# Altium integrated library Diode - TVS.IntLib: 371 symbols (part 2 of 6)
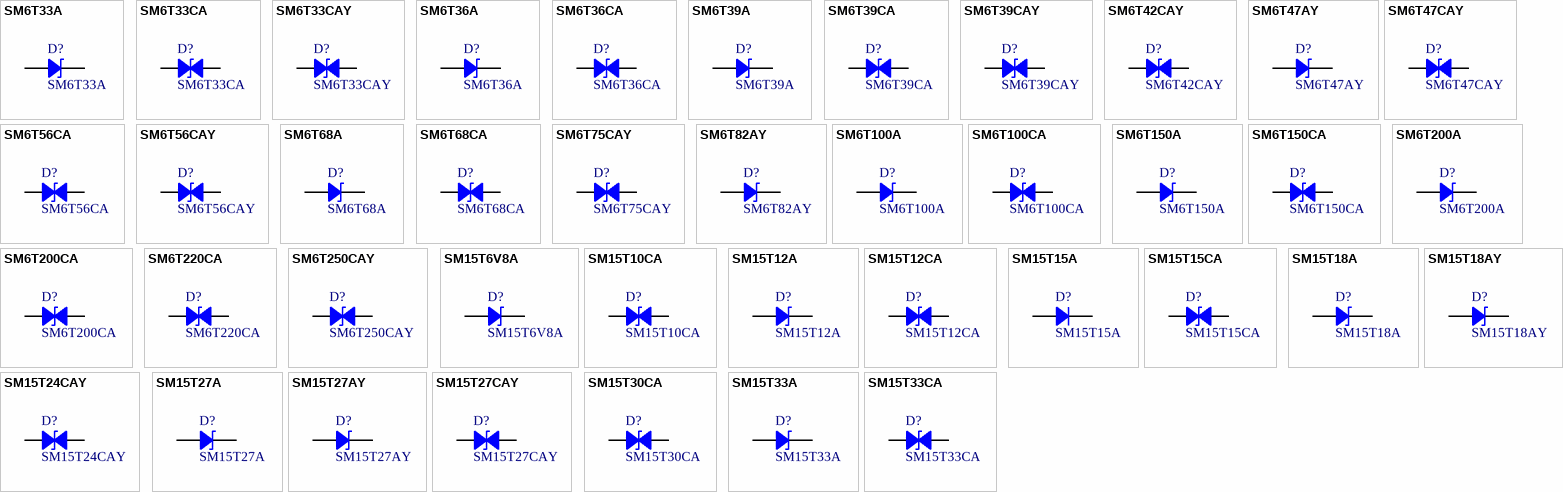
[diagram p10: symbols SM6T33A to SM15T33CA]

## SM6T200CA
designator D?
TVS DIODE 171VWM 353VC SMB; Manufacturer: STMicroelectronics; Type: Zener; Bidirectional Channels: 1; Power - Peak Pulse: 600W; Current - Peak Pulse: 11.3A (8/20us); Voltage (Clamping): 353V; Voltage (Breakdown): 190V; Voltage (Reverse Standoff): 171V; Part Number: SM6T200CA; PartId: 14693; Supplier 1: Digi-Key; Supplier Part Number 1: 497-7882-2-ND; ComponentLink1Description: Datasheet; ComponentLink1URL: http://www.st.com/web/en/resource/technical/document/datasheet/CD00000725.pdf; ComponentLink2Description: Digi-Key Listing; ComponentLink2URL: https://www.digikey.com/product-detail/en/stmicroelectronics/SM6T200CA/497-7882-2-ND/1039079; Operating Temperature: -55C ~ 150C (TJ); Price: 0.1435; Device Package: DO-214AA, SMB
footprint ST DO214AA SMB
pins: 1, 2

## SM6T220CA
designator D?
TVS DIODE 188VWM 388VC SMB; Manufacturer: STMicroelectronics; Type: Zener; Bidirectional Channels: 1; Power - Peak Pulse: 600W; Current - Peak Pulse: 10.3A (8/20us); Voltage (Clamping): 388V; Voltage (Breakdown): 209V; Voltage (Reverse Standoff): 188V; Part Number: SM6T220CA; PartId: 14686; Supplier 1: Digi-Key; Supplier Part Number 1: 497-12520-2-ND; ComponentLink1Description: Datasheet; ComponentLink1URL: http://www.st.com/web/en/resource/technical/document/datasheet/CD00000725.pdf; ComponentLink2Description: Digi-Key Listing; ComponentLink2URL: https://www.digikey.com/product-detail/en/stmicroelectronics/SM6T220CA/497-12520-2-ND/1039081; Operating Temperature: -55C ~ 150C (TJ); Price: 0.1435; Device Package: DO-214AA, SMB
footprint ST DO214AA SMB
pins: 1, 2

## SM6T250CAY
designator D?
TVS DIODE 213VWM 344VC SMB; Manufacturer: STMicroelectronics; Type: Zener; Bidirectional Channels: 1; Power - Peak Pulse: 600W; Current - Peak Pulse: 1.75A; Voltage (Clamping): 344V; Voltage (Breakdown): 237V; Voltage (Reverse Standoff): 213V; Part Number: SM6T250CAY; PartId: 14698; Supplier 1: Digi-Key; Supplier Part Number 1: 497-16031-2-ND; ComponentLink1Description: Datasheet; ComponentLink1URL: http://www.st.com/web/en/resource/technical/document/datasheet/DM00166232.pdf; ComponentLink2Description: Digi-Key Listing; ComponentLink2URL: https://www.digikey.com/product-detail/en/stmicroelectronics/SM6T250CAY/497-16031-2-ND/5455744; Operating Temperature: -55C ~ 175C (TJ); Price: 0.2015; Device Package: DO-214AA, SMB
footprint ST DO214AA SMB
pins: 1, 2

## SM15T6V8A
designator D?
TVS DIODE 5.8VWM 13.4VC SMC; Manufacturer: STMicroelectronics; Type: Zener; Unidirectional Channels: 1; Power - Peak Pulse: 1500W (1.5kW); Current - Peak Pulse: 746A (8/20us); Voltage (Clamping): 13.4V; Voltage (Breakdown): 6.45V; Voltage (Reverse Standoff): 5.8V; Part Number: SM15T6V8A; PartId: 14799; Supplier 1: Digi-Key; Supplier Part Number 1: 497-6487-2-ND; ComponentLink1Description: Datasheet; ComponentLink1URL: http://www.st.com/web/en/resource/technical/document/datasheet/CD00000724.pdf; ComponentLink2Description: Digi-Key Listing; ComponentLink2URL: https://www.digikey.com/product-detail/en/stmicroelectronics/SM15T6V8A/497-6487-2-ND/1039053; Operating Temperature: -55C ~ 150C (TJ); Price: 0.2682; Device Package: DO-214AB, SMC
footprint ST DO214AB SMC
pins: 1, 2

## SM15T10CA
designator D?
TVS DIODE 8.55VWM 18.6VC SMC; Manufacturer: STMicroelectronics; Type: Zener; Bidirectional Channels: 1; Power - Peak Pulse: 1500W (1.5kW); Current - Peak Pulse: 538A (8/20us); Voltage (Clamping): 18.6V; Voltage (Breakdown): 9.5V; Voltage (Reverse Standoff): 8.55V; Part Number: SM15T10CA; PartId: 14820; Supplier 1: Digi-Key; Supplier Part Number 1: 497-6482-2-ND; ComponentLink1Description: Datasheet; ComponentLink1URL: http://www.st.com/web/en/resource/technical/document/datasheet/CD00000724.pdf; ComponentLink2Description: Digi-Key Listing; ComponentLink2URL: https://www.digikey.com/product-detail/en/stmicroelectronics/SM15T10CA/497-6482-2-ND/1039029; Operating Temperature: -55C ~ 150C (TJ); Price: 0.2798; Device Package: DO-214AB, SMC
footprint ST DO214AB SMC
pins: 1, 2

## SM15T12A
designator D?
TVS DIODE 10.2VWM 21.7VC SMC; Manufacturer: STMicroelectronics; Type: Zener; Unidirectional Channels: 1; Power - Peak Pulse: 1500W (1.5kW); Current - Peak Pulse: 461A (8/20us); Voltage (Clamping): 21.7V; Voltage (Breakdown): 11.4V; Voltage (Reverse Standoff): 10.2V; Part Number: SM15T12A; PartId: 14793; Supplier 1: Digi-Key; Supplier Part Number 1: 497-3715-2-ND; ComponentLink1Description: Datasheet; ComponentLink1URL: http://www.st.com/web/en/resource/technical/document/datasheet/CD00000724.pdf; ComponentLink2Description: Digi-Key Listing; ComponentLink2URL: https://www.digikey.com/product-detail/en/stmicroelectronics/SM15T12A/497-3715-2-ND/686394; Operating Temperature: -55C ~ 150C (TJ); Price: 0.2508; Device Package: DO-214AB, SMC
footprint ST DO214AB SMC
pins: 1, 2

## SM15T12CA
designator D?
TVS DIODE 10.2VWM 21.7VC SMC; Manufacturer: STMicroelectronics; Type: Zener; Bidirectional Channels: 1; Power - Peak Pulse: 1500W (1.5kW); Current - Peak Pulse: 461A (8/20us); Voltage (Clamping): 21.7V; Voltage (Breakdown): 11.4V; Voltage (Reverse Standoff): 10.2V; Part Number: SM15T12CA; PartId: 14822; Supplier 1: Digi-Key; Supplier Part Number 1: 497-12771-2-ND; ComponentLink1Description: Datasheet; ComponentLink1URL: http://www.st.com/web/en/resource/technical/document/datasheet/CD00000724.pdf; ComponentLink2Description: Digi-Key Listing; ComponentLink2URL: https://www.digikey.com/product-detail/en/stmicroelectronics/SM15T12CA/497-12771-2-ND/1039030; Operating Temperature: -55C ~ 150C (TJ); Price: 0.2798; Device Package: DO-214AB, SMC
footprint ST DO214AB SMC
pins: 1, 2

## SM15T15A
designator D?
TVS DIODE 12.8VWM 27.2VC SMC; Manufacturer: STMicroelectronics; Type: Surface Mount; Power - Peak Pulse: 1500W (1.5kW); Current - Peak Pulse: 368A (8/20us); Voltage (Clamping): 27.2V; Voltage (Breakdown): 14.3V; Voltage (Reverse Standoff): 12.8V; Part Number: SM15T15A; PartId: 7774; Supplier 1: Digi-Key; Supplier Part Number 1: 497-7862-2-ND; ComponentLink1Description: Datasheet; ComponentLink1URL: http://www.st.com/web/en/resource/technical/document/datasheet/CD00000724.pdf; ComponentLink2Description: Digi-Key Listing; ComponentLink2URL: http://www.digikey.ca/product-detail/en/SM15T15A/497-7862-2-ND/1039032; Operating Temperature: -55C ~ 150C (TJ); Price: 0.366; Device Package: DO-214AB, SMC
footprint DO214AB SMC
pins: 1, 2

## SM15T15CA
designator D?
TVS DIODE 12.8VWM 27.2VC SMC; Manufacturer: STMicroelectronics; Type: Zener; Bidirectional Channels: 1; Power - Peak Pulse: 1500W (1.5kW); Current - Peak Pulse: 368A (8/20us); Voltage (Clamping): 27.2V; Voltage (Breakdown): 14.3V; Voltage (Reverse Standoff): 12.8V; Part Number: SM15T15CA; PartId: 14821; Supplier 1: Digi-Key; Supplier Part Number 1: 497-7863-2-ND; ComponentLink1Description: Datasheet; ComponentLink1URL: http://www.st.com/web/en/resource/technical/document/datasheet/CD00000724.pdf; ComponentLink2Description: Digi-Key Listing; ComponentLink2URL: https://www.digikey.com/product-detail/en/stmicroelectronics/SM15T15CA/497-7863-2-ND/1039033; Operating Temperature: -55C ~ 150C (TJ); Price: 0.2798; Device Package: DO-214AB, SMC
footprint ST DO214AB SMC
pins: 1, 2

## SM15T18A
designator D?
TVS DIODE 15.3VWM 32.5VC SMC; Manufacturer: STMicroelectronics; Type: Zener; Unidirectional Channels: 1; Power - Peak Pulse: 1500W (1.5kW); Current - Peak Pulse: 308A (8/20us); Voltage (Clamping): 32.5V; Voltage (Breakdown): 17.1V; Voltage (Reverse Standoff): 15.3V; Part Number: SM15T18A; PartId: 14795; Supplier 1: Digi-Key; Supplier Part Number 1: 497-7864-2-ND; ComponentLink1Description: Datasheet; ComponentLink1URL: http://www.st.com/web/en/resource/technical/document/datasheet/CD00000724.pdf; ComponentLink2Description: Digi-Key Listing; ComponentLink2URL: https://www.digikey.com/product-detail/en/stmicroelectronics/SM15T18A/497-7864-2-ND/1039034; Operating Temperature: -55C ~ 150C (TJ); Price: 0.2639; Device Package: DO-214AB, SMC
footprint ST DO214AB SMC
pins: 1, 2

## SM15T18AY
designator D?
TVS DIODE 15.3VWM 32.5VC SMC; Manufacturer: STMicroelectronics; Type: Zener; Unidirectional Channels: 1; Power - Peak Pulse: 1500W (1.5kW); Current - Peak Pulse: 308A (8/20us); Voltage (Clamping): 32.5V; Voltage (Breakdown): 17.1V; Voltage (Reverse Standoff): 15.3V; Part Number: SM15T18AY; PartId: 14801; Supplier 1: Digi-Key; Supplier Part Number 1: 497-10786-2-ND; ComponentLink1Description: Datasheet; ComponentLink1URL: http://www.st.com/web/en/resource/technical/document/datasheet/CD00283429.pdf; ComponentLink2Description: Digi-Key Listing; ComponentLink2URL: https://www.digikey.com/product-detail/en/stmicroelectronics/SM15T18AY/497-10786-2-ND/2442904; Operating Temperature: -40C ~ 150C (TJ); Price: 0.361; Device Package: DO-214AB, SMC
footprint ST DO214AB SMC
pins: 1, 2

## SM15T24CAY
designator D?
TVS DIODE 20.5VWM 42.8VC SMC; Manufacturer: STMicroelectronics; Type: Zener; Bidirectional Channels: 1; Power - Peak Pulse: 1500W (1.5kW); Current - Peak Pulse: 234A (8/20us); Voltage (Clamping): 42.8V; Voltage (Breakdown): 22.8V; Voltage (Reverse Standoff): 20.5V; Part Number: SM15T24CAY; PartId: 14828; Supplier 1: Digi-Key; Supplier Part Number 1: 497-10899-2-ND; ComponentLink1Description: Datasheet; ComponentLink1URL: http://www.st.com/web/en/resource/technical/document/datasheet/CD00283429.pdf; ComponentLink2Description: Digi-Key Listing; ComponentLink2URL: https://www.digikey.com/product-detail/en/stmicroelectronics/SM15T24CAY/497-10899-2-ND/2522422; Operating Temperature: -40C ~ 150C (TJ); Price: 0.3682; Device Package: DO-214AB, SMC
footprint ST DO214AB SMC
pins: 1, 2

## SM15T27A
designator D?
TVS DIODE 23.1VWM 48.3VC SMC; Manufacturer: STMicroelectronics; Type: Zener; Unidirectional Channels: 1; Power - Peak Pulse: 1500W (1.5kW); Current - Peak Pulse: 207A (8/20us); Voltage (Clamping): 48.3V; Voltage (Breakdown): 25.7V; Voltage (Reverse Standoff): 23.1V; Part Number: SM15T27A; PartId: 14794; Supplier 1: Digi-Key; Supplier Part Number 1: 497-7869-2-ND; ComponentLink1Description: Datasheet; ComponentLink1URL: http://www.st.com/web/en/resource/technical/document/datasheet/CD00000724.pdf; ComponentLink2Description: Digi-Key Listing; ComponentLink2URL: https://www.digikey.com/product-detail/en/stmicroelectronics/SM15T27A/497-7869-2-ND/1039043; Operating Temperature: -55C ~ 150C (TJ); Price: 0.2639; Device Package: DO-214AB, SMC
footprint ST DO214AB SMC
pins: 1, 2

## SM15T27AY
designator D?
TVS DIODE 23.1VWM 48.3VC SMC; Manufacturer: STMicroelectronics; Type: Zener; Unidirectional Channels: 1; Power - Peak Pulse: 1500W (1.5kW); Current - Peak Pulse: 207A (8/20us); Voltage (Clamping): 48.3V; Voltage (Breakdown): 25.7V; Voltage (Reverse Standoff): 23.1V; Part Number: SM15T27AY; PartId: 14803; Supplier 1: Digi-Key; Supplier Part Number 1: 497-10789-2-ND; ComponentLink1Description: Datasheet; ComponentLink1URL: http://www.st.com/web/en/resource/technical/document/datasheet/CD00283429.pdf; ComponentLink2Description: Digi-Key Listing; ComponentLink2URL: https://www.digikey.com/product-detail/en/stmicroelectronics/SM15T27AY/497-10789-2-ND/2442902; Operating Temperature: -40C ~ 150C (TJ); Price: 0.361; Device Package: DO-214AB, SMC
footprint ST DO214AB SMC
pins: 1, 2

## SM15T27CAY
designator D?
TVS DIODE 23.1VWM 48.3VC SMC; Manufacturer: STMicroelectronics; Type: Zener; Bidirectional Channels: 1; Power - Peak Pulse: 1500W (1.5kW); Current - Peak Pulse: 207A (8/20us); Voltage (Clamping): 48.3V; Voltage (Breakdown): 25.7V; Voltage (Reverse Standoff): 23.1V; Part Number: SM15T27CAY; PartId: 14827; Supplier 1: Digi-Key; Supplier Part Number 1: 497-10900-2-ND; ComponentLink1Description: Datasheet; ComponentLink1URL: http://www.st.com/web/en/resource/technical/document/datasheet/CD00283429.pdf; ComponentLink2Description: Digi-Key Listing; ComponentLink2URL: https://www.digikey.com/product-detail/en/stmicroelectronics/SM15T27CAY/497-10900-2-ND/2522423; Operating Temperature: -40C ~ 150C (TJ); Price: 0.3682; Device Package: DO-214AB, SMC
footprint ST DO214AB SMC
pins: 1, 2

## SM15T30CA
designator D?
TVS DIODE 25.6VWM 53.5VC SMC; Manufacturer: STMicroelectronics; Type: Zener; Bidirectional Channels: 1; Power - Peak Pulse: 1500W (1.5kW); Current - Peak Pulse: 187A (8/20us); Voltage (Clamping): 53.5V; Voltage (Breakdown): 28.5V; Voltage (Reverse Standoff): 25.6V; Part Number: SM15T30CA; PartId: 14819; Supplier 1: Digi-Key; Supplier Part Number 1: 497-12773-2-ND; ComponentLink1Description: Datasheet; ComponentLink1URL: http://www.st.com/web/en/resource/technical/document/datasheet/CD00000724.pdf; ComponentLink2Description: Digi-Key Listing; ComponentLink2URL: https://www.digikey.com/product-detail/en/stmicroelectronics/SM15T30CA/497-12773-2-ND/1039045; Operating Temperature: -55C ~ 150C (TJ); Price: 0.2798; Device Package: DO-214AB, SMC
footprint ST DO214AB SMC
pins: 1, 2

## SM15T33A
designator D?
TVS DIODE 28.2VWM 59VC SMC; Manufacturer: STMicroelectronics; Type: Zener; Unidirectional Channels: 1; Power - Peak Pulse: 1500W (1.5kW); Current - Peak Pulse: 169A (8/20us); Voltage (Clamping): 59V; Voltage (Breakdown): 31.4V; Voltage (Reverse Standoff): 28.2V; Part Number: SM15T33A; PartId: 14797; Supplier 1: Digi-Key; Supplier Part Number 1: 497-7871-2-ND; ComponentLink1Description: Datasheet; ComponentLink1URL: http://www.st.com/web/en/resource/technical/document/datasheet/CD00000724.pdf; ComponentLink2Description: Digi-Key Listing; ComponentLink2URL: https://www.digikey.com/product-detail/en/stmicroelectronics/SM15T33A/497-7871-2-ND/1039046; Operating Temperature: -55C ~ 150C (TJ); Price: 0.2682; Device Package: DO-214AB, SMC
footprint ST DO214AB SMC
pins: 1, 2

## SM15T33CA
designator D?
TVS DIODE 28.2VWM 59VC SMC; Manufacturer: STMicroelectronics; Type: Zener; Bidirectional Channels: 1; Power - Peak Pulse: 1500W (1.5kW); Current - Peak Pulse: 169A (8/20us); Voltage (Clamping): 59V; Voltage (Breakdown): 31.4V; Voltage (Reverse Standoff): 28.2V; Part Number: SM15T33CA; PartId: 14816; Supplier 1: Digi-Key; Supplier Part Number 1: 497-7872-2-ND; ComponentLink1Description: Datasheet; ComponentLink1URL: http://www.st.com/web/en/resource/technical/document/datasheet/CD00000724.pdf; ComponentLink2Description: Digi-Key Listing; ComponentLink2URL: https://www.digikey.com/product-detail/en/stmicroelectronics/SM15T33CA/497-7872-2-ND/1039047; Operating Temperature: -55C ~ 150C (TJ); Price: 0.2682; Device Package: DO-214AB, SMC
footprint ST DO214AB SMC
pins: 1, 2

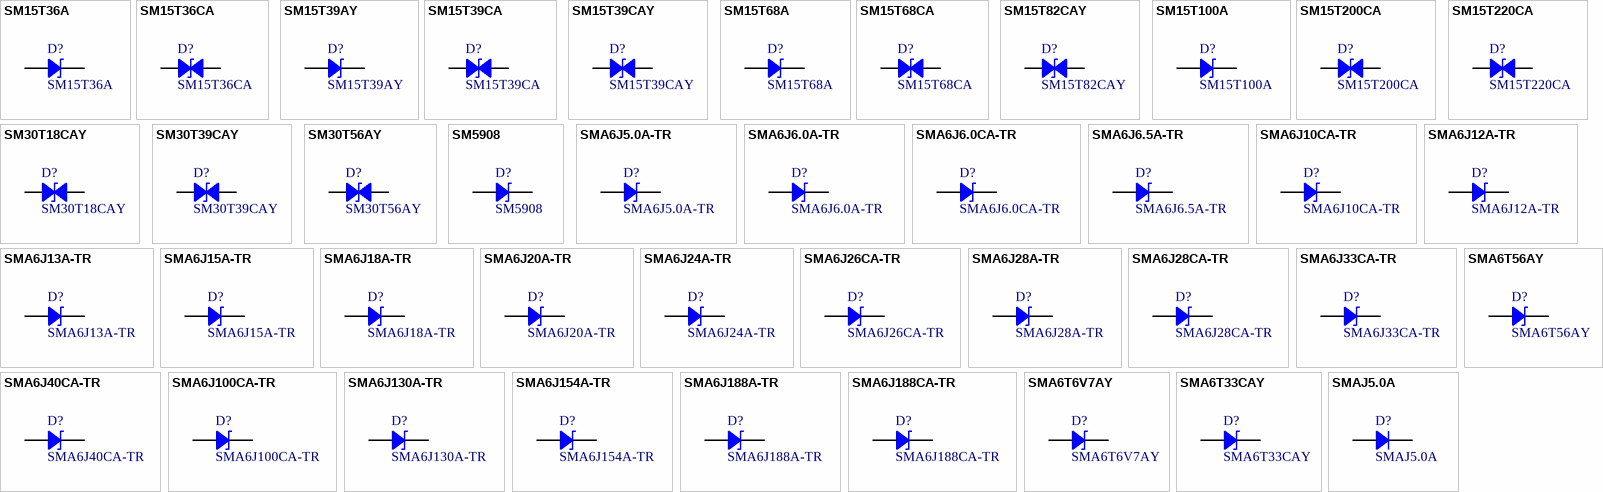
[diagram p2: symbols SM15T36A to SMAJ5.0A]

## SM15T36A
designator D?
TVS DIODE 30.8VWM 64.3VC SMC; Manufacturer: STMicroelectronics; Type: Zener; Unidirectional Channels: 1; Power - Peak Pulse: 1500W (1.5kW); Current - Peak Pulse: 156A (8/20us); Voltage (Clamping): 64.3V; Voltage (Breakdown): 34.2V; Voltage (Reverse Standoff): 30.8V; Part Number: SM15T36A; PartId: 14788; Supplier 1: Digi-Key; Supplier Part Number 1: 1026-SM15T36A-CHP; ComponentLink1Description: Datasheet; ComponentLink1URL: http://www.st.com/web/en/resource/technical/document/datasheet/CD00000724.pdf; ComponentLink2Description: Digi-Key Listing; ComponentLink2URL: https://www.digikey.com/product-detail/en/stmicroelectronics/SM15T36A/1026-SM15T36A-CHP/2521413; Operating Temperature: -55C ~ 150C (TJ); Price: 0.137; Device Package: DO-214AB, SMC
footprint ST DO214AB SMC
pins: 1, 2

## SM15T36CA
designator D?
TVS DIODE 30.8VWM 64.3VC SMC; Manufacturer: STMicroelectronics; Type: Zener; Bidirectional Channels: 1; Power - Peak Pulse: 1500W (1.5kW); Current - Peak Pulse: 156A (8/20us); Voltage (Clamping): 64.3V; Voltage (Breakdown): 34.2V; Voltage (Reverse Standoff): 30.8V; Part Number: SM15T36CA; PartId: 14818; Supplier 1: Digi-Key; Supplier Part Number 1: 497-7873-2-ND; ComponentLink1Description: Datasheet; ComponentLink1URL: http://www.st.com/web/en/resource/technical/document/datasheet/CD00000724.pdf; ComponentLink2Description: Digi-Key Listing; ComponentLink2URL: https://www.digikey.com/product-detail/en/stmicroelectronics/SM15T36CA/497-7873-2-ND/1039049; Operating Temperature: -55C ~ 150C (TJ); Price: 0.2682; Device Package: DO-214AB, SMC
footprint ST DO214AB SMC
pins: 1, 2

## SM15T39AY
designator D?
TVS DIODE 33.3VWM 69.7VC SMC; Manufacturer: STMicroelectronics; Type: Zener; Unidirectional Channels: 1; Power - Peak Pulse: 1500W (1.5kW); Current - Peak Pulse: 143A (8/20us); Voltage (Clamping): 69.7V; Voltage (Breakdown): 37.1V; Voltage (Reverse Standoff): 33.3V; Part Number: SM15T39AY; PartId: 14802; Supplier 1: Digi-Key; Supplier Part Number 1: 497-10904-2-ND; ComponentLink1Description: Datasheet; ComponentLink1URL: http://www.st.com/web/en/resource/technical/document/datasheet/CD00283429.pdf; ComponentLink2Description: Digi-Key Listing; ComponentLink2URL: https://www.digikey.com/product-detail/en/stmicroelectronics/SM15T39AY/497-10904-2-ND/2522427; Operating Temperature: -40C ~ 150C (TJ); Price: 0.361; Device Package: DO-214AB, SMC
footprint ST DO214AB SMC
pins: 1, 2

## SM15T39CA
designator D?
TVS DIODE 33.3VWM 69.7VC SMC; Manufacturer: STMicroelectronics; Type: Zener; Bidirectional Channels: 1; Power - Peak Pulse: 1500W (1.5kW); Current - Peak Pulse: 143A (8/20us); Voltage (Clamping): 69.7V; Voltage (Breakdown): 37.1V; Voltage (Reverse Standoff): 33.3V; Part Number: SM15T39CA; PartId: 14817; Supplier 1: Digi-Key; Supplier Part Number 1: 497-6486-2-ND; ComponentLink1Description: Datasheet; ComponentLink1URL: http://www.st.com/web/en/resource/technical/document/datasheet/CD00000724.pdf; ComponentLink2Description: Digi-Key Listing; ComponentLink2URL: https://www.digikey.com/product-detail/en/stmicroelectronics/SM15T39CA/497-6486-2-ND/1039050; Operating Temperature: -55C ~ 150C (TJ); Price: 0.2682; Device Package: DO-214AB, SMC
footprint ST DO214AB SMC
pins: 1, 2

## SM15T39CAY
designator D?
TVS DIODE 33.3VWM 69.7VC SMC; Manufacturer: STMicroelectronics; Type: Zener; Bidirectional Channels: 1; Power - Peak Pulse: 1500W (1.5kW); Current - Peak Pulse: 143A (8/20us); Voltage (Clamping): 69.7V; Voltage (Breakdown): 37.1V; Voltage (Reverse Standoff): 33.3V; Part Number: SM15T39CAY; PartId: 14826; Supplier 1: Digi-Key; Supplier Part Number 1: 497-10793-2-ND; ComponentLink1Description: Datasheet; ComponentLink1URL: http://www.st.com/web/en/resource/technical/document/datasheet/CD00283429.pdf; ComponentLink2Description: Digi-Key Listing; ComponentLink2URL: https://www.digikey.com/product-detail/en/stmicroelectronics/SM15T39CAY/497-10793-2-ND/2442921; Operating Temperature: -40C ~ 150C (TJ); Price: 0.3682; Device Package: DO-214AB, SMC
footprint ST DO214AB SMC
pins: 1, 2

## SM15T68A
designator D?
TVS DIODE 58.1VWM 121VC SMC; Manufacturer: STMicroelectronics; Type: Zener; Unidirectional Channels: 1; Power - Peak Pulse: 1500W (1.5kW); Current - Peak Pulse: 83A (8/20us); Voltage (Clamping): 121V; Voltage (Breakdown): 64.6V; Voltage (Reverse Standoff): 58.1V; Part Number: SM15T68A; PartId: 14800; Supplier 1: Digi-Key; Supplier Part Number 1: 497-7874-2-ND; ComponentLink1Description: Datasheet; ComponentLink1URL: http://www.st.com/web/en/resource/technical/document/datasheet/CD00000724.pdf; ComponentLink2Description: Digi-Key Listing; ComponentLink2URL: https://www.digikey.com/product-detail/en/stmicroelectronics/SM15T68A/497-7874-2-ND/1039051; Operating Temperature: -55C ~ 150C (TJ); Price: 0.2798; Device Package: DO-214AB, SMC
footprint ST DO214AB SMC
pins: 1, 2

## SM15T68CA
designator D?
TVS DIODE 58.1VWM 121VC SMC; Manufacturer: STMicroelectronics; Type: Zener; Bidirectional Channels: 1; Power - Peak Pulse: 1500W (1.5kW); Current - Peak Pulse: 83A (8/20us); Voltage (Clamping): 121V; Voltage (Breakdown): 64.6V; Voltage (Reverse Standoff): 58.1V; Part Number: SM15T68CA; PartId: 14823; Supplier 1: Digi-Key; Supplier Part Number 1: 497-7875-2-ND; ComponentLink1Description: Datasheet; ComponentLink1URL: http://www.st.com/web/en/resource/technical/document/datasheet/CD00000724.pdf; ComponentLink2Description: Digi-Key Listing; ComponentLink2URL: https://www.digikey.com/product-detail/en/stmicroelectronics/SM15T68CA/497-7875-2-ND/1039052; Operating Temperature: -55C ~ 150C (TJ); Price: 0.2972; Device Package: DO-214AB, SMC
footprint ST DO214AB SMC
pins: 1, 2

## SM15T82CAY
designator D?
TVS DIODE 70VWM 146VC SMC; Manufacturer: STMicroelectronics; Type: Zener; Bidirectional Channels: 1; Power - Peak Pulse: 1500W (1.5kW); Current - Peak Pulse: 69A (8/20us); Voltage (Clamping): 146V; Voltage (Breakdown): 77.8V; Voltage (Reverse Standoff): 70V; Part Number: SM15T82CAY; PartId: 14829; Supplier 1: Digi-Key; Supplier Part Number 1: 497-11787-2-ND; ComponentLink1Description: Datasheet; ComponentLink1URL: http://www.st.com/web/en/resource/technical/document/datasheet/CD00283429.pdf; ComponentLink2Description: Digi-Key Listing; ComponentLink2URL: https://www.digikey.com/product-detail/en/stmicroelectronics/SM15T82CAY/497-11787-2-ND/2756430; Operating Temperature: -40C ~ 150C (TJ); Price: 0.3682; Device Package: DO-214AB, SMC
footprint ST DO214AB SMC
pins: 1, 2

## SM15T100A
designator D?
TVS DIODE 85.5VWM 178VC SMC; Manufacturer: STMicroelectronics; Type: Zener; Unidirectional Channels: 1; Power - Peak Pulse: 1500W (1.5kW); Current - Peak Pulse: 56A (8/20us); Voltage (Clamping): 178V; Voltage (Breakdown): 95V; Voltage (Reverse Standoff): 85.5V; Part Number: SM15T100A; PartId: 14796; Supplier 1: Digi-Key; Supplier Part Number 1: 497-12050-2-ND; ComponentLink1Description: Datasheet; ComponentLink1URL: http://www.st.com/web/en/resource/technical/document/datasheet/CD00000724.pdf; ComponentLink2Description: Digi-Key Listing; ComponentLink2URL: https://www.digikey.com/product-detail/en/stmicroelectronics/SM15T100A/497-12050-2-ND/1039026; Operating Temperature: -55C ~ 150C (TJ); Price: 0.2639; Device Package: DO-214AB, SMC
footprint ST DO214AB SMC
pins: 1, 2

## SM15T200CA
designator D?
TVS DIODE 171VWM 353VC SMC; Manufacturer: STMicroelectronics; Type: Zener; Bidirectional Channels: 1; Power - Peak Pulse: 1500W (1.5kW); Current - Peak Pulse: 28A (8/20us); Voltage (Clamping): 353V; Voltage (Breakdown): 190V; Voltage (Reverse Standoff): 171V; Part Number: SM15T200CA; PartId: 14824; Supplier 1: Digi-Key; Supplier Part Number 1: 497-6483-2-ND; ComponentLink1Description: Datasheet; ComponentLink1URL: http://www.st.com/web/en/resource/technical/document/datasheet/CD00000724.pdf; ComponentLink2Description: Digi-Key Listing; ComponentLink2URL: https://www.digikey.com/product-detail/en/stmicroelectronics/SM15T200CA/497-6483-2-ND/1039036; Operating Temperature: -55C ~ 150C (TJ); Price: 0.3045; Device Package: DO-214AB, SMC
footprint ST DO214AB SMC
pins: 1, 2

## SM15T220CA
designator D?
TVS DIODE 188VWM 388VC SMC; Manufacturer: STMicroelectronics; Type: Zener; Bidirectional Channels: 1; Power - Peak Pulse: 1500W (1.5kW); Current - Peak Pulse: 26A (8/20us); Voltage (Clamping): 388V; Voltage (Breakdown): 209V; Voltage (Reverse Standoff): 188V; Part Number: SM15T220CA; PartId: 14825; Supplier 1: Digi-Key; Supplier Part Number 1: 497-7866-2-ND; ComponentLink1Description: Datasheet; ComponentLink1URL: http://www.st.com/web/en/resource/technical/document/datasheet/CD00000724.pdf; ComponentLink2Description: Digi-Key Listing; ComponentLink2URL: https://www.digikey.com/product-detail/en/stmicroelectronics/SM15T220CA/497-7866-2-ND/1039038; Operating Temperature: -55C ~ 150C (TJ); Price: 0.3045; Device Package: DO-214AB, SMC
footprint ST DO214AB SMC
pins: 1, 2

## SM30T18CAY
designator D?
TVS DIODE 15VWM 24.4VC SMC; Manufacturer: STMicroelectronics; Type: Zener; Bidirectional Channels: 1; Power - Peak Pulse: 3000W (3kW); Current - Peak Pulse: 123A; Voltage (Clamping): 24.4V; Voltage (Breakdown): 16.7V; Voltage (Reverse Standoff): 15V; Part Number: SM30T18CAY; PartId: 14834; Supplier 1: Digi-Key; Supplier Part Number 1: 497-12174-2-ND; ComponentLink1Description: Datasheet; ComponentLink1URL: http://www.st.com/web/en/resource/technical/document/datasheet/DM00035136.pdf; ComponentLink2Description: Digi-Key Listing; ComponentLink2URL: https://www.digikey.com/product-detail/en/stmicroelectronics/SM30T18CAY/497-12174-2-ND/2826937; Operating Temperature: -55C ~ 175C (TJ); Price: 0.918; Device Package: DO-214AB, SMC
footprint ST DO214AB SMC
pins: 1, 2

## SM30T39CAY
designator D?
TVS DIODE 33VWM 53.3VC SMC; Manufacturer: STMicroelectronics; Type: Zener; Bidirectional Channels: 1; Power - Peak Pulse: 3000W (3kW); Current - Peak Pulse: 56.3A; Voltage (Clamping): 53.3V; Voltage (Breakdown): 36.7V; Voltage (Reverse Standoff): 33V; Part Number: SM30T39CAY; PartId: 14833; Supplier 1: Digi-Key; Supplier Part Number 1: 497-12192-2-ND; ComponentLink1Description: Datasheet; ComponentLink1URL: http://www.st.com/web/en/resource/technical/document/datasheet/DM00035136.pdf; ComponentLink2Description: Digi-Key Listing; ComponentLink2URL: https://www.digikey.com/product-detail/en/stmicroelectronics/SM30T39CAY/497-12192-2-ND/2826955; Operating Temperature: -55C ~ 175C (TJ); Price: 0.918; Device Package: DO-214AB, SMC
footprint ST DO214AB SMC
pins: 1, 2

## SM30T56AY
designator D?
TVS DIODE 48VWM 76.6VC SMC; Manufacturer: STMicroelectronics; Type: Zener; Bidirectional Channels: 1; Power - Peak Pulse: 3000W (3kW); Current - Peak Pulse: 38A; Voltage (Clamping): 76.6V; Voltage (Breakdown): 53.2V; Voltage (Reverse Standoff): 48V; Part Number: SM30T56AY; PartId: 14832; Supplier 1: Digi-Key; Supplier Part Number 1: 497-16295-2-ND; ComponentLink1Description: Datasheet; ComponentLink1URL: http://www.st.com/web/en/resource/technical/document/datasheet/DM00035136.pdf; ComponentLink2Description: Digi-Key Listing; ComponentLink2URL: https://www.digikey.com/product-detail/en/stmicroelectronics/SM30T56AY/497-16295-2-ND/5848370; Operating Temperature: -55C ~ 175C (TJ); Price: 0.56; Device Package: DO-214AB, SMC
footprint ST DO214AB SMC
pins: 1, 2

## SM5908
designator D?
TVS DIODE 5VWM 8.5VC SMC; Manufacturer: STMicroelectronics; Type: Zener; Unidirectional Channels: 1; Power - Peak Pulse: 1500W (1.5kW); Current - Peak Pulse: 120A (8/20us); Voltage (Clamping): 8.5V; Voltage (Breakdown): 6V; Voltage (Reverse Standoff): 5V; Part Number: SM5908; PartId: 14804; Supplier 1: Digi-Key; Supplier Part Number 1: 497-6489-2-ND; ComponentLink1Description: Datasheet; ComponentLink1URL: http://www.st.com/web/en/resource/technical/document/datasheet/CD00000664.pdf; ComponentLink2Description: Digi-Key Listing; ComponentLink2URL: https://www.digikey.com/product-detail/en/stmicroelectronics/SM5908/497-6489-2-ND/1039062; Operating Temperature: -55C ~ 175C (TJ); Price: 0.3976; Device Package: DO-214AB, SMC
footprint ST DO214AB SMC
pins: 1, 2

## SMA6J5.0A-TR
designator D?
TVS DIODE 5VWM 13.4VC SMA; Manufacturer: STMicroelectronics; Type: Zener; Unidirectional Channels: 1; Power - Peak Pulse: 600W; Current - Peak Pulse: 298A (8/20us); Voltage (Clamping): 13.4V; Voltage (Breakdown): 6.4V; Voltage (Reverse Standoff): 5V; Part Number: SMA6J5.0A-TR; PartId: 14918; Supplier 1: Digi-Key; Supplier Part Number 1: 497-5938-2-ND; ComponentLink1Description: Datasheet; ComponentLink1URL: http://www2.st.com/content/ccc/resource/technical/document/datasheet/56/26/d7/6f/22/8c/4e/b3/CD00152688.pdf/files/CD00152688.pdf/_jcr_content/translations/en.CD00152688.pdf; ComponentLink2Description: Digi-Key Listing; ComponentLink2URL: https://www.digikey.com/product-detail/en/stmicroelectronics/SMA6J5.0A-TR/497-5938-2-ND/1578342; Operating Temperature: -55C ~ 175C (TJ); Price: 0.1406; Device Package: DO-214AC, SMA
footprint ST DO214AC SMA
pins: 1, 2

## SMA6J6.0A-TR
designator D?
TVS DIODE 6VWM 13.7VC SMA; Manufacturer: STMicroelectronics; Type: Zener; Unidirectional Channels: 1; Power - Peak Pulse: 600W; Current - Peak Pulse: 290A (8/20us); Voltage (Clamping): 13.7V; Voltage (Breakdown): 6.7V; Voltage (Reverse Standoff): 6V; Part Number: SMA6J6.0A-TR; PartId: 14923; Supplier 1: Digi-Key; Supplier Part Number 1: 497-5942-2-ND; ComponentLink1Description: Datasheet; ComponentLink1URL: http://www2.st.com/content/ccc/resource/technical/document/datasheet/56/26/d7/6f/22/8c/4e/b3/CD00152688.pdf/files/CD00152688.pdf/_jcr_content/translations/en.CD00152688.pdf; ComponentLink2Description: Digi-Key Listing; ComponentLink2URL: https://www.digikey.com/product-detail/en/stmicroelectronics/SMA6J6.0A-TR/497-5942-2-ND/1578346; Operating Temperature: -55C ~ 175C (TJ); Price: 0.1508; Device Package: DO-214AC, SMA
footprint ST DO214AC SMA
pins: 1, 2

## SMA6J6.0CA-TR
designator D?
TVS DIODE 6VWM 13.7VC SMA; Manufacturer: STMicroelectronics; Type: Zener; Bidirectional Channels: 1; Power - Peak Pulse: 600W; Current - Peak Pulse: 290A (8/20us); Voltage (Clamping): 13.7V; Voltage (Breakdown): 6.7V; Voltage (Reverse Standoff): 6V; Part Number: SMA6J6.0CA-TR; PartId: 14954; Supplier 1: Digi-Key; Supplier Part Number 1: 497-5943-2-ND; ComponentLink1Description: Datasheet; ComponentLink1URL: http://www2.st.com/content/ccc/resource/technical/document/datasheet/56/26/d7/6f/22/8c/4e/b3/CD00152688.pdf/files/CD00152688.pdf/_jcr_content/translations/en.CD00152688.pdf; ComponentLink2Description: Digi-Key Listing; ComponentLink2URL: https://www.digikey.com/product-detail/en/stmicroelectronics/SMA6J6.0CA-TR/497-5943-2-ND/1578347; Operating Temperature: -55C ~ 175C (TJ); Price: 0.158; Device Package: DO-214AC, SMA
footprint ST DO214AC SMA
pins: 1, 2

## SMA6J6.5A-TR
designator D?
TVS DIODE 6.5VWM 14.5VC SMA; Manufacturer: STMicroelectronics; Type: Zener; Unidirectional Channels: 1; Power - Peak Pulse: 600W; Current - Peak Pulse: 276A (8/20us); Voltage (Clamping): 14.5V; Voltage (Breakdown): 7.2V; Voltage (Reverse Standoff): 6.5V; Part Number: SMA6J6.5A-TR; PartId: 14927; Supplier 1: Digi-Key; Supplier Part Number 1: 497-5944-2-ND; ComponentLink1Description: Datasheet; ComponentLink1URL: http://www2.st.com/content/ccc/resource/technical/document/datasheet/56/26/d7/6f/22/8c/4e/b3/CD00152688.pdf/files/CD00152688.pdf/_jcr_content/translations/en.CD00152688.pdf; ComponentLink2Description: Digi-Key Listing; ComponentLink2URL: https://www.digikey.com/product-detail/en/stmicroelectronics/SMA6J6.5A-TR/497-5944-2-ND/1578348; Operating Temperature: -55C ~ 175C (TJ); Price: 0.1508; Device Package: DO-214AC, SMA
footprint ST DO214AC SMA
pins: 1, 2

## SMA6J10CA-TR
designator D?
TVS DIODE 10VWM 19.6VC SMA; Manufacturer: STMicroelectronics; Type: Zener; Bidirectional Channels: 1; Power - Peak Pulse: 600W; Current - Peak Pulse: 184A (8/20us); Voltage (Clamping): 19.6V; Voltage (Breakdown): 11.1V; Voltage (Reverse Standoff): 10V; Part Number: SMA6J10CA-TR; PartId: 14957; Supplier 1: Digi-Key; Supplier Part Number 1: 497-5916-2-ND; ComponentLink1Description: Datasheet; ComponentLink1URL: http://www2.st.com/content/ccc/resource/technical/document/datasheet/56/26/d7/6f/22/8c/4e/b3/CD00152688.pdf/files/CD00152688.pdf/_jcr_content/translations/en.CD00152688.pdf; ComponentLink2Description: Digi-Key Listing; ComponentLink2URL: https://www.digikey.com/product-detail/en/stmicroelectronics/SMA6J10CA-TR/497-5916-2-ND/1578320; Operating Temperature: -55C ~ 175C (TJ); Price: 0.158; Device Package: DO-214AC, SMA
footprint ST DO214AC SMA
pins: 1, 2

## SMA6J12A-TR
designator D?
TVS DIODE 12VWM 23.5VC SMA; Manufacturer: STMicroelectronics; Type: Zener; Unidirectional Channels: 1; Power - Peak Pulse: 600W; Current - Peak Pulse: 157A (8/20us); Voltage (Clamping): 23.5V; Voltage (Breakdown): 13.3V; Voltage (Reverse Standoff): 12V; Part Number: SMA6J12A-TR; PartId: 14919; Supplier 1: Digi-Key; Supplier Part Number 1: 497-5917-2-ND; ComponentLink1Description: Datasheet; ComponentLink1URL: http://www2.st.com/content/ccc/resource/technical/document/datasheet/56/26/d7/6f/22/8c/4e/b3/CD00152688.pdf/files/CD00152688.pdf/_jcr_content/translations/en.CD00152688.pdf; ComponentLink2Description: Digi-Key Listing; ComponentLink2URL: https://www.digikey.com/product-detail/en/stmicroelectronics/SMA6J12A-TR/497-5917-2-ND/1578321; Operating Temperature: -55C ~ 175C (TJ); Price: 0.1406; Device Package: DO-214AC, SMA
footprint ST DO214AC SMA
pins: 1, 2

## SMA6J13A-TR
designator D?
TVS DIODE 13VWM 23.9VC SMA; Manufacturer: STMicroelectronics; Type: Zener; Unidirectional Channels: 1; Power - Peak Pulse: 600W; Current - Peak Pulse: 147A (8/20us); Voltage (Clamping): 23.9V; Voltage (Breakdown): 14.4V; Voltage (Reverse Standoff): 13V; Part Number: SMA6J13A-TR; PartId: 14924; Supplier 1: Digi-Key; Supplier Part Number 1: 497-5919-2-ND; ComponentLink1Description: Datasheet; ComponentLink1URL: http://www2.st.com/content/ccc/resource/technical/document/datasheet/56/26/d7/6f/22/8c/4e/b3/CD00152688.pdf/files/CD00152688.pdf/_jcr_content/translations/en.CD00152688.pdf; ComponentLink2Description: Digi-Key Listing; ComponentLink2URL: https://www.digikey.com/product-detail/en/stmicroelectronics/SMA6J13A-TR/497-5919-2-ND/1578323; Operating Temperature: -55C ~ 175C (TJ); Price: 0.1508; Device Package: DO-214AC, SMA
footprint ST DO214AC SMA
pins: 1, 2

## SMA6J15A-TR
designator D?
TVS DIODE 15VWM 27.7VC SMA; Manufacturer: STMicroelectronics; Type: Zener; Unidirectional Channels: 1; Power - Peak Pulse: 600W; Current - Peak Pulse: 123A (8/20us); Voltage (Clamping): 27.7V; Voltage (Breakdown): 16.7V; Voltage (Reverse Standoff): 15V; Part Number: SMA6J15A-TR; PartId: 14920; Supplier 1: Digi-Key; Supplier Part Number 1: 497-5921-2-ND; ComponentLink1Description: Datasheet; ComponentLink1URL: http://www2.st.com/content/ccc/resource/technical/document/datasheet/56/26/d7/6f/22/8c/4e/b3/CD00152688.pdf/files/CD00152688.pdf/_jcr_content/translations/en.CD00152688.pdf; ComponentLink2Description: Digi-Key Listing; ComponentLink2URL: https://www.digikey.com/product-detail/en/stmicroelectronics/SMA6J15A-TR/497-5921-2-ND/1578325; Operating Temperature: -55C ~ 175C (TJ); Price: 0.1508; Device Package: DO-214AC, SMA
footprint ST DO214AC SMA
pins: 1, 2

## SMA6J18A-TR
designator D?
TVS DIODE 18VWM 33.2VC SMA; Manufacturer: STMicroelectronics; Type: Zener; Unidirectional Channels: 1; Power - Peak Pulse: 600W; Current - Peak Pulse: 102A (8/20us); Voltage (Clamping): 33.2V; Voltage (Breakdown): 20V; Voltage (Reverse Standoff): 18V; Part Number: SMA6J18A-TR; PartId: 14925; Supplier 1: Digi-Key; Supplier Part Number 1: 497-5923-2-ND; ComponentLink1Description: Datasheet; ComponentLink1URL: http://www2.st.com/content/ccc/resource/technical/document/datasheet/56/26/d7/6f/22/8c/4e/b3/CD00152688.pdf/files/CD00152688.pdf/_jcr_content/translations/en.CD00152688.pdf; ComponentLink2Description: Digi-Key Listing; ComponentLink2URL: https://www.digikey.com/product-detail/en/stmicroelectronics/SMA6J18A-TR/497-5923-2-ND/1578327; Operating Temperature: -55C ~ 175C (TJ); Price: 0.1508; Device Package: DO-214AC, SMA
footprint ST DO214AC SMA
pins: 1, 2

## SMA6J20A-TR
designator D?
TVS DIODE 20VWM 36.8VC SMA; Manufacturer: STMicroelectronics; Type: Zener; Unidirectional Channels: 1; Power - Peak Pulse: 600W; Current - Peak Pulse: 93A (8/20us); Voltage (Clamping): 36.8V; Voltage (Breakdown): 22.2V; Voltage (Reverse Standoff): 20V; Part Number: SMA6J20A-TR; PartId: 14926; Supplier 1: Digi-Key; Supplier Part Number 1: 497-5925-2-ND; ComponentLink1Description: Datasheet; ComponentLink1URL: http://www2.st.com/content/ccc/resource/technical/document/datasheet/56/26/d7/6f/22/8c/4e/b3/CD00152688.pdf/files/CD00152688.pdf/_jcr_content/translations/en.CD00152688.pdf; ComponentLink2Description: Digi-Key Listing; ComponentLink2URL: https://www.digikey.com/product-detail/en/stmicroelectronics/SMA6J20A-TR/497-5925-2-ND/1578329; Operating Temperature: -55C ~ 175C (TJ); Price: 0.1508; Device Package: DO-214AC, SMA
footprint ST DO214AC SMA
pins: 1, 2

## SMA6J24A-TR
designator D?
TVS DIODE 24VWM 44.3VC SMA; Manufacturer: STMicroelectronics; Type: Zener; Unidirectional Channels: 1; Power - Peak Pulse: 600W; Current - Peak Pulse: 80A (8/20us); Voltage (Clamping): 44.3V; Voltage (Breakdown): 26.7V; Voltage (Reverse Standoff): 24V; Part Number: SMA6J24A-TR; PartId: 14921; Supplier 1: Digi-Key; Supplier Part Number 1: 497-5927-2-ND; ComponentLink1Description: Datasheet; ComponentLink1URL: http://www2.st.com/content/ccc/resource/technical/document/datasheet/56/26/d7/6f/22/8c/4e/b3/CD00152688.pdf/files/CD00152688.pdf/_jcr_content/translations/en.CD00152688.pdf; ComponentLink2Description: Digi-Key Listing; ComponentLink2URL: https://www.digikey.com/product-detail/en/stmicroelectronics/SMA6J24A-TR/497-5927-2-ND/1578331; Operating Temperature: -55C ~ 175C (TJ); Price: 0.1508; Device Package: DO-214AC, SMA
footprint ST DO214AC SMA
pins: 1, 2

## SMA6J26CA-TR
designator D?
TVS DIODE 26VWM 47.9VC SMA; Manufacturer: STMicroelectronics; Type: Zener; Bidirectional Channels: 1; Power - Peak Pulse: 600W; Current - Peak Pulse: 75A (8/20us); Voltage (Clamping): 47.9V; Voltage (Breakdown): 28.9V; Voltage (Reverse Standoff): 26V; Part Number: SMA6J26CA-TR; PartId: 14953; Supplier 1: Digi-Key; Supplier Part Number 1: 497-5930-2-ND; ComponentLink1Description: Datasheet; ComponentLink1URL: http://www2.st.com/content/ccc/resource/technical/document/datasheet/56/26/d7/6f/22/8c/4e/b3/CD00152688.pdf/files/CD00152688.pdf/_jcr_content/translations/en.CD00152688.pdf; ComponentLink2Description: Digi-Key Listing; ComponentLink2URL: https://www.digikey.com/product-detail/en/stmicroelectronics/SMA6J26CA-TR/497-5930-2-ND/1578334; Operating Temperature: -55C ~ 175C (TJ); Price: 0.158; Device Package: DO-214AC, SMA
footprint ST DO214AC SMA
pins: 1, 2

## SMA6J28A-TR
designator D?
TVS DIODE 28VWM 51.6VC SMA; Manufacturer: STMicroelectronics; Type: Zener; Unidirectional Channels: 1; Power - Peak Pulse: 600W; Current - Peak Pulse: 68A (8/20us); Voltage (Clamping): 51.6V; Voltage (Breakdown): 31.1V; Voltage (Reverse Standoff): 28V; Part Number: SMA6J28A-TR; PartId: 14922; Supplier 1: Digi-Key; Supplier Part Number 1: 497-5931-2-ND; ComponentLink1Description: Datasheet; ComponentLink1URL: http://www2.st.com/content/ccc/resource/technical/document/datasheet/56/26/d7/6f/22/8c/4e/b3/CD00152688.pdf/files/CD00152688.pdf/_jcr_content/translations/en.CD00152688.pdf; ComponentLink2Description: Digi-Key Listing; ComponentLink2URL: https://www.digikey.com/product-detail/en/stmicroelectronics/SMA6J28A-TR/497-5931-2-ND/1578335; Operating Temperature: -55C ~ 175C (TJ); Price: 0.1508; Device Package: DO-214AC, SMA
footprint ST DO214AC SMA
pins: 1, 2

## SMA6J28CA-TR
designator D?
TVS DIODE 28VWM 51.6VC SMA; Manufacturer: STMicroelectronics; Type: Zener; Bidirectional Channels: 1; Power - Peak Pulse: 600W; Current - Peak Pulse: 68A (8/20us); Voltage (Clamping): 51.6V; Voltage (Breakdown): 31.1V; Voltage (Reverse Standoff): 28V; Part Number: SMA6J28CA-TR; PartId: 14952; Supplier 1: Digi-Key; Supplier Part Number 1: 497-7888-2-ND; ComponentLink1Description: Datasheet; ComponentLink1URL: http://www2.st.com/content/ccc/resource/technical/document/datasheet/56/26/d7/6f/22/8c/4e/b3/CD00152688.pdf/files/CD00152688.pdf/_jcr_content/translations/en.CD00152688.pdf; ComponentLink2Description: Digi-Key Listing; ComponentLink2URL: https://www.digikey.com/product-detail/en/stmicroelectronics/SMA6J28CA-TR/497-7888-2-ND/1852359; Operating Temperature: -55C ~ 175C (TJ); Price: 0.1522; Device Package: DO-214AC, SMA
footprint ST DO214AC SMA
pins: 1, 2

## SMA6J33CA-TR
designator D?
TVS DIODE 33VWM 60.8VC SMA; Manufacturer: STMicroelectronics; Type: Zener; Bidirectional Channels: 1; Power - Peak Pulse: 600W; Current - Peak Pulse: 57A (8/20us); Voltage (Clamping): 60.8V; Voltage (Breakdown): 36.7V; Voltage (Reverse Standoff): 33V; Part Number: SMA6J33CA-TR; PartId: 14951; Supplier 1: Digi-Key; Supplier Part Number 1: 497-5933-2-ND; ComponentLink1Description: Datasheet; ComponentLink1URL: http://www2.st.com/content/ccc/resource/technical/document/datasheet/56/26/d7/6f/22/8c/4e/b3/CD00152688.pdf/files/CD00152688.pdf/_jcr_content/translations/en.CD00152688.pdf; ComponentLink2Description: Digi-Key Listing; ComponentLink2URL: https://www.digikey.com/product-detail/en/stmicroelectronics/SMA6J33CA-TR/497-5933-2-ND/1578337; Operating Temperature: -55C ~ 175C (TJ); Price: 0.1479; Device Package: DO-214AC, SMA
footprint ST DO214AC SMA
pins: 1, 2

## SMA6J40CA-TR
designator D?
TVS DIODE 40VWM 73.6VC SMA; Manufacturer: STMicroelectronics; Type: Zener; Bidirectional Channels: 1; Power - Peak Pulse: 600W; Current - Peak Pulse: 48A (8/20us); Voltage (Clamping): 73.6V; Voltage (Breakdown): 44.4V; Voltage (Reverse Standoff): 40V; Part Number: SMA6J40CA-TR; PartId: 14950; Supplier 1: Digi-Key; Supplier Part Number 1: 497-5935-2-ND; ComponentLink1Description: Datasheet; ComponentLink1URL: http://www2.st.com/content/ccc/resource/technical/document/datasheet/56/26/d7/6f/22/8c/4e/b3/CD00152688.pdf/files/CD00152688.pdf/_jcr_content/translations/en.CD00152688.pdf; ComponentLink2Description: Digi-Key Listing; ComponentLink2URL: https://www.digikey.com/product-detail/en/stmicroelectronics/SMA6J40CA-TR/497-5935-2-ND/1578339; Operating Temperature: -55C ~ 175C (TJ); Price: 0.1464; Device Package: DO-214AC, SMA
footprint ST DO214AC SMA
pins: 1, 2

## SMA6J100CA-TR
designator D?
TVS DIODE 100VWM 172VC SMA; Manufacturer: STMicroelectronics; Type: Zener; Bidirectional Channels: 1; Power - Peak Pulse: 600W; Current - Peak Pulse: 19A (8/20us); Voltage (Clamping): 172V; Voltage (Breakdown): 111V; Voltage (Reverse Standoff): 100V; Part Number: SMA6J100CA-TR; PartId: 14955; Supplier 1: Digi-Key; Supplier Part Number 1: 497-7883-2-ND; ComponentLink1Description: Datasheet; ComponentLink1URL: http://www2.st.com/content/ccc/resource/technical/document/datasheet/56/26/d7/6f/22/8c/4e/b3/CD00152688.pdf/files/CD00152688.pdf/_jcr_content/translations/en.CD00152688.pdf; ComponentLink2Description: Digi-Key Listing; ComponentLink2URL: https://www.digikey.com/product-detail/en/stmicroelectronics/SMA6J100CA-TR/497-7883-2-ND/1852350; Operating Temperature: -55C ~ 175C (TJ); Price: 0.158; Device Package: DO-214AC, SMA
footprint ST DO214AC SMA
pins: 1, 2

## SMA6J130A-TR
designator D?
TVS DIODE 130VWM 223VC SMA; Manufacturer: STMicroelectronics; Type: Zener; Unidirectional Channels: 1; Power - Peak Pulse: 600W; Current - Peak Pulse: 15A (8/20us); Voltage (Clamping): 223V; Voltage (Breakdown): 144V; Voltage (Reverse Standoff): 130V; Part Number: SMA6J130A-TR; PartId: 14930; Supplier 1: Digi-Key; Supplier Part Number 1: 497-7441-2-ND; ComponentLink1Description: Datasheet; ComponentLink1URL: http://www2.st.com/content/ccc/resource/technical/document/datasheet/56/26/d7/6f/22/8c/4e/b3/CD00152688.pdf/files/CD00152688.pdf/_jcr_content/translations/en.CD00152688.pdf; ComponentLink2Description: Digi-Key Listing; ComponentLink2URL: https://www.digikey.com/product-detail/en/stmicroelectronics/SMA6J130A-TR/497-7441-2-ND/1852351; Operating Temperature: -55C ~ 175C (TJ); Price: 0.1508; Device Package: DO-214AC, SMA
footprint ST DO214AC SMA
pins: 1, 2

## SMA6J154A-TR
designator D?
TVS DIODE 154VWM 265VC SMA; Manufacturer: STMicroelectronics; Type: Zener; Unidirectional Channels: 1; Power - Peak Pulse: 600W; Current - Peak Pulse: 12.6A (8/20us); Voltage (Clamping): 265V; Voltage (Breakdown): 171V; Voltage (Reverse Standoff): 154V; Part Number: SMA6J154A-TR; PartId: 14929; Supplier 1: Digi-Key; Supplier Part Number 1: 497-7442-2-ND; ComponentLink1Description: Datasheet; ComponentLink1URL: http://www2.st.com/content/ccc/resource/technical/document/datasheet/56/26/d7/6f/22/8c/4e/b3/CD00152688.pdf/files/CD00152688.pdf/_jcr_content/translations/en.CD00152688.pdf; ComponentLink2Description: Digi-Key Listing; ComponentLink2URL: https://www.digikey.com/product-detail/en/stmicroelectronics/SMA6J154A-TR/497-7442-2-ND/1852353; Operating Temperature: -55C ~ 175C (TJ); Price: 0.1508; Device Package: DO-214AC, SMA
footprint ST DO214AC SMA
pins: 1, 2

## SMA6J188A-TR
designator D?
TVS DIODE 188VWM 323VC SMA; Manufacturer: STMicroelectronics; Type: Zener; Unidirectional Channels: 1; Power - Peak Pulse: 600W; Current - Peak Pulse: 10.3A (8/20us); Voltage (Clamping): 323V; Voltage (Breakdown): 209V; Voltage (Reverse Standoff): 188V; Part Number: SMA6J188A-TR; PartId: 14928; Supplier 1: Digi-Key; Supplier Part Number 1: 497-7444-2-ND; ComponentLink1Description: Datasheet; ComponentLink1URL: http://www2.st.com/content/ccc/resource/technical/document/datasheet/56/26/d7/6f/22/8c/4e/b3/CD00152688.pdf/files/CD00152688.pdf/_jcr_content/translations/en.CD00152688.pdf; ComponentLink2Description: Digi-Key Listing; ComponentLink2URL: https://www.digikey.com/product-detail/en/stmicroelectronics/SMA6J188A-TR/497-7444-2-ND/1852357; Operating Temperature: -55C ~ 175C (TJ); Price: 0.1508; Device Package: DO-214AC, SMA
footprint ST DO214AC SMA
pins: 1, 2

## SMA6J188CA-TR
designator D?
TVS DIODE 188VWM 323VC SMA; Manufacturer: STMicroelectronics; Type: Zener; Bidirectional Channels: 1; Power - Peak Pulse: 600W; Current - Peak Pulse: 10.3A (8/20us); Voltage (Clamping): 323V; Voltage (Breakdown): 209V; Voltage (Reverse Standoff): 188V; Part Number: SMA6J188CA-TR; PartId: 14956; Supplier 1: Digi-Key; Supplier Part Number 1: 497-7887-2-ND; ComponentLink1Description: Datasheet; ComponentLink1URL: http://www2.st.com/content/ccc/resource/technical/document/datasheet/56/26/d7/6f/22/8c/4e/b3/CD00152688.pdf/files/CD00152688.pdf/_jcr_content/translations/en.CD00152688.pdf; ComponentLink2Description: Digi-Key Listing; ComponentLink2URL: https://www.digikey.com/product-detail/en/stmicroelectronics/SMA6J188CA-TR/497-7887-2-ND/1852358; Operating Temperature: -55C ~ 175C (TJ); Price: 0.158; Device Package: DO-214AC, SMA
footprint ST DO214AC SMA
pins: 1, 2

## SMA6T6V7AY
designator D?
TVS DIODE 5VWM 13.4VC SMA; Manufacturer: STMicroelectronics; Type: Zener; Unidirectional Channels: 1; Power - Peak Pulse: 600W; Current - Peak Pulse: 298A (8/20us); Voltage (Clamping): 13.4V; Voltage (Breakdown): 6.4V; Voltage (Reverse Standoff): 5V; Part Number: SMA6T6V7AY; PartId: 14932; Supplier 1: Digi-Key; Supplier Part Number 1: 497-11833-2-ND; ComponentLink1Description: Datasheet; ComponentLink1URL: http://www2.st.com/content/ccc/resource/technical/document/datasheet/93/f7/c5/38/17/3c/42/37/CD00283518.pdf/files/CD00283518.pdf/_jcr_content/translations/en.CD00283518.pdf; ComponentLink2Description: Digi-Key Listing; ComponentLink2URL: https://www.digikey.com/product-detail/en/stmicroelectronics/SMA6T6V7AY/497-11833-2-ND/2756445; Operating Temperature: -40C ~ 150C (TJ); Price: 0.2106; Device Package: DO-214AC, SMA
footprint ST DO214AC SMA
pins: 1, 2

## SMA6T33CAY
designator D?
TVS DIODE 28.2VWM 59VC SMA; Manufacturer: STMicroelectronics; Type: Zener; Bidirectional Channels: 1; Power - Peak Pulse: 600W; Current - Peak Pulse: 68A (8/20us); Voltage (Clamping): 59V; Voltage (Breakdown): 31.4V; Voltage (Reverse Standoff): 28.2V; Part Number: SMA6T33CAY; PartId: 14959; Supplier 1: Digi-Key; Supplier Part Number 1: 497-10948-2-ND; ComponentLink1Description: Datasheet; ComponentLink1URL: http://www2.st.com/content/ccc/resource/technical/document/datasheet/93/f7/c5/38/17/3c/42/37/CD00283518.pdf/files/CD00283518.pdf/_jcr_content/translations/en.CD00283518.pdf; ComponentLink2Description: Digi-Key Listing; ComponentLink2URL: https://www.digikey.com/product-detail/en/stmicroelectronics/SMA6T33CAY/497-10948-2-ND/2522471; Operating Temperature: -40C ~ 150C (TJ); Price: 0.3857; Device Package: DO-214AC, SMA
footprint ST DO214AC SMA
pins: 1, 2

## SMA6T56AY
designator D?
TVS DIODE 47.6VWM 100VC SMA; Manufacturer: STMicroelectronics; Type: Zener; Unidirectional Channels: 1; Power - Peak Pulse: 600W; Current - Peak Pulse: 40A (8/20us); Voltage (Clamping): 100V; Voltage (Breakdown): 53.2V; Voltage (Reverse Standoff): 47.6V; Part Number: SMA6T56AY; PartId: 14933; Supplier 1: Digi-Key; Supplier Part Number 1: 497-10951-2-ND; ComponentLink1Description: Datasheet; ComponentLink1URL: http://www2.st.com/content/ccc/resource/technical/document/datasheet/93/f7/c5/38/17/3c/42/37/CD00283518.pdf/files/CD00283518.pdf/_jcr_content/translations/en.CD00283518.pdf; ComponentLink2Description: Digi-Key Listing; ComponentLink2URL: https://www.digikey.com/product-detail/en/stmicroelectronics/SMA6T56AY/497-10951-2-ND/2522474; Operating Temperature: -40C ~ 150C (TJ); Price: 0.3591; Device Package: DO-214AC, SMA
footprint ST DO214AC SMA
pins: 1, 2

## SMAJ5.0A
designator D?
TVS DIODE 5VWM 9.2VC SMA; Manufacturer: Littelfuse Inc.; Type: Surface Mount; Power - Peak Pulse: 400W; Current - Peak Pulse: 43.5A; Voltage (Clamping): 9.2V; Voltage (Breakdown): 6.4V; Voltage (Reverse Standoff): 5V; Part Number: SMAJ5.0A; PartId: 7757; Supplier 1: Digi-Key; Supplier Part Number 1: SMAJ5.0ALFTR-ND; ComponentLink1Description: Datasheet; ComponentLink1URL: http://www.littelfuse.com/~/media/electronics/datasheets/tvs_diodes/littelfuse_tvs_diode_smaj_datasheet.pdf.pdf; ComponentLink2Description: Digi-Key Listing; ComponentLink2URL: http://www.digikey.ca/product-detail/en/SMAJ5.0A/SMAJ5.0ALFTR-ND/762250; Operating Temperature: -55C ~ 150C (TJ); Price: 0.1626; Device Package: DO-214AC, SMA
footprint DO214AC SMA
pins: 1, 2

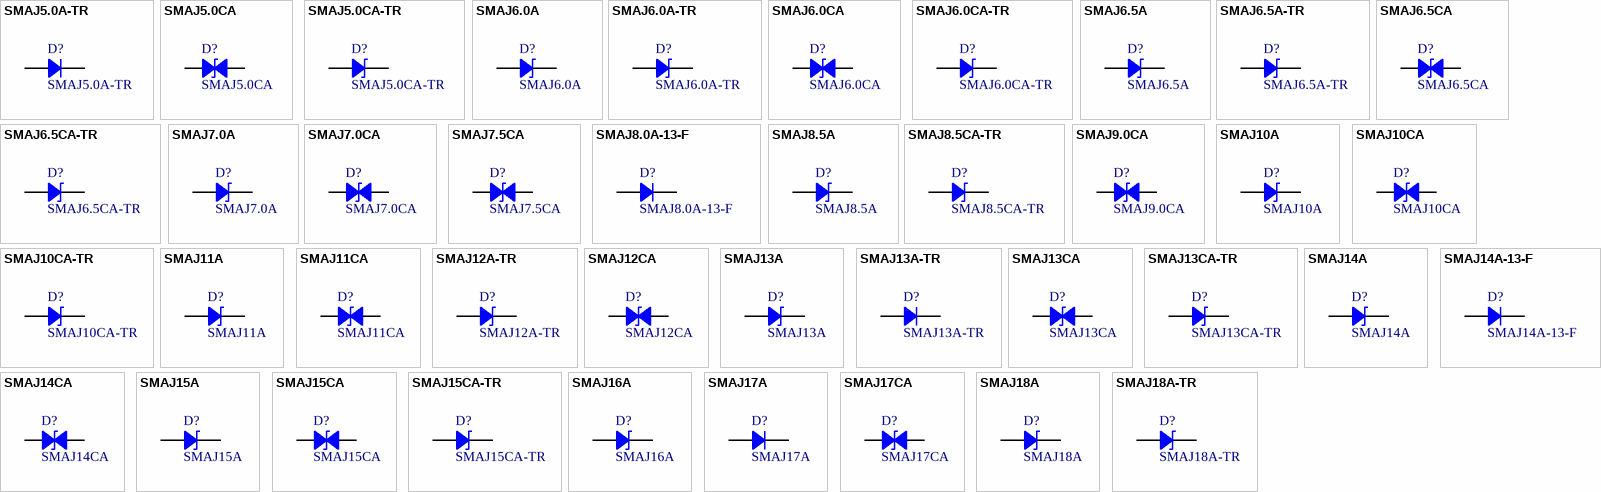
[diagram p3: symbols SMAJ5.0A-TR to SMAJ18A-TR]

## SMAJ5.0A-TR
designator D?
TVS DIODE 5VWM 13.4VC DO214AC; Manufacturer: STMicroelectronics; Type: Surface Mount; Power - Peak Pulse: 400W; Current - Peak Pulse: 174A (8/20us); Voltage (Clamping): 13.4V; Voltage (Breakdown): 6.4V; Voltage (Reverse Standoff): 5V; Part Number: SMAJ5.0A-TR; PartId: 7759; Supplier 1: Digi-Key; Supplier Part Number 1: 497-2999-2-ND; ComponentLink1Description: Datasheet; ComponentLink1URL: http://www.st.com/web/en/resource/technical/document/datasheet/CD00001333.pdf; ComponentLink2Description: Digi-Key Listing; ComponentLink2URL: http://www.digikey.ca/product-detail/en/SMAJ5.0A-TR/497-2999-2-ND/634763; Operating Temperature: -55C ~ 150C (TJ); Price: 0.1146; Device Package: DO-214AC, SMA
footprint DO214AC SMA
pins: 1, 2